# Altium footprint library VQFN-24_3.5x5.5x05P.PcbLib: 1 footprints
Each footprint in its own frame and in the unit in brackets; x right, y up, seen from the top. Pads: shape width x height; smd on the part's side, far side on the other; paste and mask are expansions set on the pad; w line width, h text height; cw(c..) or ccw(c..) is an arc to the next point about the centre after c.
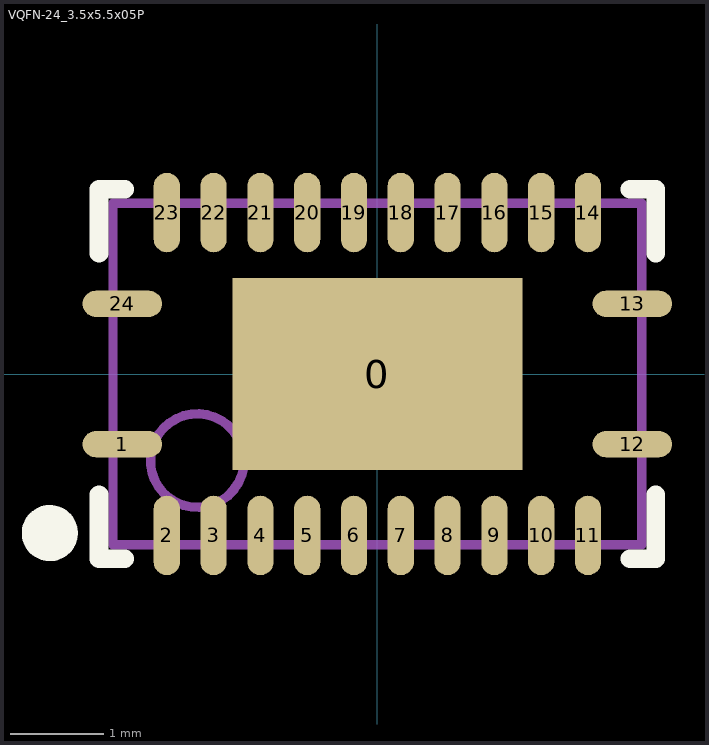
[diagram p0: the footprint, top view; thin cyan lines are the x and y axes]

## VQFN-24_3.5x5.5x05P [mm]
pads (25):
  rect 3.1x2.05 smd paste-1.025 mask+0.051: 0(0,0)
  oval 0.85x0.28 smd paste-0.025 mask+0.051: 1(-2.725,-0.75) 12(2.725,-0.75) 13(2.725,0.75) 24(-2.725,0.75)
  oval 0.28x0.85 smd paste-0.025 mask+0.051: 2(-2.25,-1.725) 3(-1.75,-1.725) 4(-1.25,-1.725) 5(-0.75,-1.725) 6(-0.25,-1.725) 7(0.25,-1.725) 8(0.75,-1.725) 9(1.25,-1.725) 10(1.75,-1.725) 11(2.25,-1.725) 14(2.25,1.725) 15(1.75,1.725) 16(1.25,1.725) 17(0.75,1.725) 18(0.25,1.725) 19(-0.25,1.725) 20(-0.75,1.725) 21(-1.25,1.725) 22(-1.75,1.725) 23(-2.25,1.725)
Top Overlay:
  circle w0.3: c-3.5,-1.7 r0.15
  lines w0.2: -2.975,-1.29 -2.975,-1.975 -2.7,-1.975 ; -2.975,1.29 -2.975,1.975 -2.7,1.975 ; 2.7,-1.975 2.975,-1.975 2.975,-1.29 ; 2.7,1.975 2.975,1.975 2.975,1.29
Top Paste:
  rectangle: -1.465,-0.975 -0.145,-0.155
  region: 1.475,-0.155 0.155,-0.155 0.155,-0.975 1.475,-0.975
  region: 1.475,0.965 0.155,0.965 0.155,0.145 1.475,0.145
  rectangle: -1.465,0.145 -0.145,0.965
Mechanical 13:
  circle w0.1: c-1.925,-0.925 r0.5
  lines w0.1: -2.825,-1.825 2.825,-1.825 2.825,1.825 -2.825,1.825 -2.825,-1.825